# EAGLE library part TDA7056 (library Audio-Power-amlifier V.2.0)
The TDA7056 is a mono output amplifier, designed for battery-fed portable radios and mains-fed equipment such as television. For space reasons there is a trend to decrease the number of external components. For portable applications there is also a trend to decrease the number of battery cells, but still a reasonable output power is required. The TDA7056 fulfills both of these requirements. It needs no peripheral components, because it makes use of the Bridge-Tied-Load (BTL) principle. Consequently it has, at the same supply voltage, a higher output power compared to a conventional Single Ended output stage. It delivers an output power of 1 W into a loudspeaker load of 8 W with 6 V supply or 3 W into 16 W loudspeaker at 11 V without need of an external heatsink. The gain is internally fixed at 40 dB. Special attention is given to switch-on/off click suppression, and it has a good overall stability. The load can be short circuited at all input conditions.
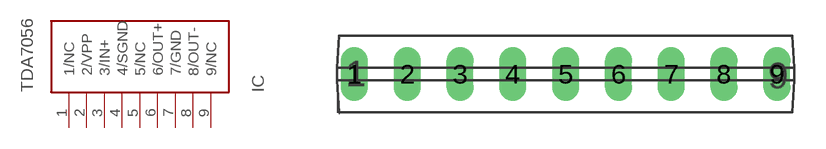
[diagram p108: symbol with the pads of SOT110-1; footprint SOT110-1]

Designator prefix IC

## TDA7056  [SOT110-1]
1  1/NC  nc
2  2/VPP  pwr
3  3/IN+  in
4  4/SGND  pwr
5  5/NC  nc
6  6/OUT+  out
7  7/GND  pwr
8  8/OUT-  out
9  9/NC  nc

## Footprint SOT110-1 (pad centres in mm)
SIL9MPF: plastic single in-line medium power package with fin; 9 leads
drill 0.8 long: 1 -10.16,0; 2 -7.62,0; 3 -5.08,0; 4 -2.54,0; 5 0,0; 6 2.54,0; 7 5.08,0; 8 7.62,0; 9 10.16,0